# EAGLE library part TE---1-1734592-0_1734592-8 (library uSD_extender_male)
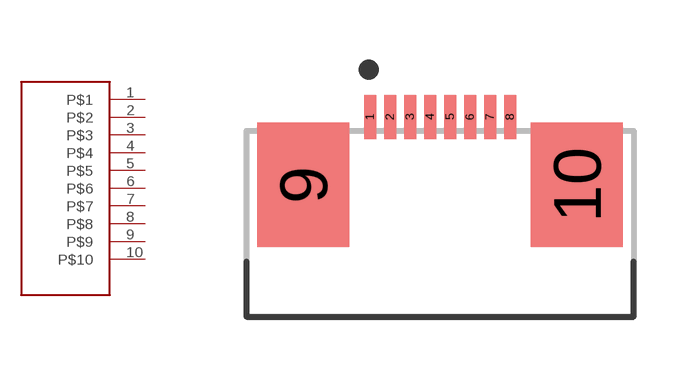
[diagram p1: symbol with the pads of TE---1-1734592-0_TE_1-1734592-8; footprint TE---1-1734592-0_TE_1-1734592-8]

Designator prefix -

## TE---1-1734592-0_1734592-8  [TE---1-1734592-0_TE_1-1734592-8]
1  P$1
2  P$2
3  P$3
4  P$4
5  P$5
6  P$6
7  P$7
8  P$8
9  P$9
10  P$10

## Footprint TE---1-1734592-0_TE_1-1734592-8 (pad centres in mm)
10 Position FPC Connector Contacts, Bottom 0.020" (0.50mm) Surface Mount, Right Angle
smd 0.3 x 1.1: 1 -2.25,2.55; 2 -1.75,2.55; 3 -1.25,2.55; 4 -0.75,2.55; 5 -0.25,2.55; 6 0.25,2.55; 7 0.75,2.55; 8 1.25,2.55
smd 2.3 x 3.1: 9 -3.92,0.85; 10 2.92,0.85